# Altium schematic symbol library Transistors.SchLib: 6 symbols
Pins are listed as number, name and electrical type; pins without a type are passive.

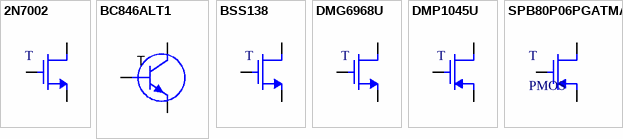
[diagram p0: symbols 2N7002 to SPB80P06PGATMA1]

## 2N7002
designator T
NMOS 115mA 2.1V; Cont. drain current: 115mA; Threshold voltage: 2.1V; Supplier Part Number 1: 9845313; Supplier 1: Farnell
footprint 2N7002 (SOT23, 3-Leads, Body 2,92x2,40mm, Pitch 0,95mm, IPC Medium Density)
pins: 1 G, 2 S, 3 D

## BC846ALT1
designator T
NPN BJT; Supplier 1: Farnell; Supplier Part Number 1: 1459036
footprint BC846ALT1 (SOT23, 3-Leads, Body 2.92x2.37mm, Pitch 0.95mm, IPC Low Density)
pins: 1 B, 2 E, 3 C

## BSS138
designator T
NMOS 220mA 1.3V logic level; Threshold voltage: 1.3V; Cont. drain current: 220mA; Supplier Part Number 1: 9845330; Supplier 1: Farnell
footprint BSS138 (SOT23, 3-Leads, Body 2,92x2,40mm, Pitch 0,95mm, IPC Medium Density)
pins: 1 G, 2 S, 3 D

## DMG6968U
designator T
NMOS 6.5A 500mV; Threshold voltage: 500mV; Cont. drain current: 6.5A; Supplier Part Number 1: 1843757; Supplier 1: Farnell
footprint DMG6968U (SOT23, 3-Leads, Body 2.85x2.35mm, Pitch 1.03mm, IPC Medium Density)
pins: 1 G, 2 S, 3 D

## DMP1045U
designator T
PMOS 5.2A -550mV; Threshold voltage: -550mV; Cont. drain current: 5.2A; Supplier Part Number 1: 2061526; Supplier 1: Farnell
footprint DMP1045U (SOT23, 3-Leads, Body 2.85x2.35mm, Pitch 1.03mm, IPC Medium Density)
pins: 1 G, 2 S, 3 D

## SPB80P06PGATMA1
designator T, comment PMOS
footprint SPB80P06PGATMA1 (D2-PAK, 3-Pads, Body 7.82x8.52mm (max), IPC Medium Density)
pins: 1 G, 3 S, 4 D